# Altium schematic symbol library Discrete_semiconductors.SchLib: 118 symbols (part 1 of 2)
Pins are listed as number, name and electrical type; pins without a type are passive.

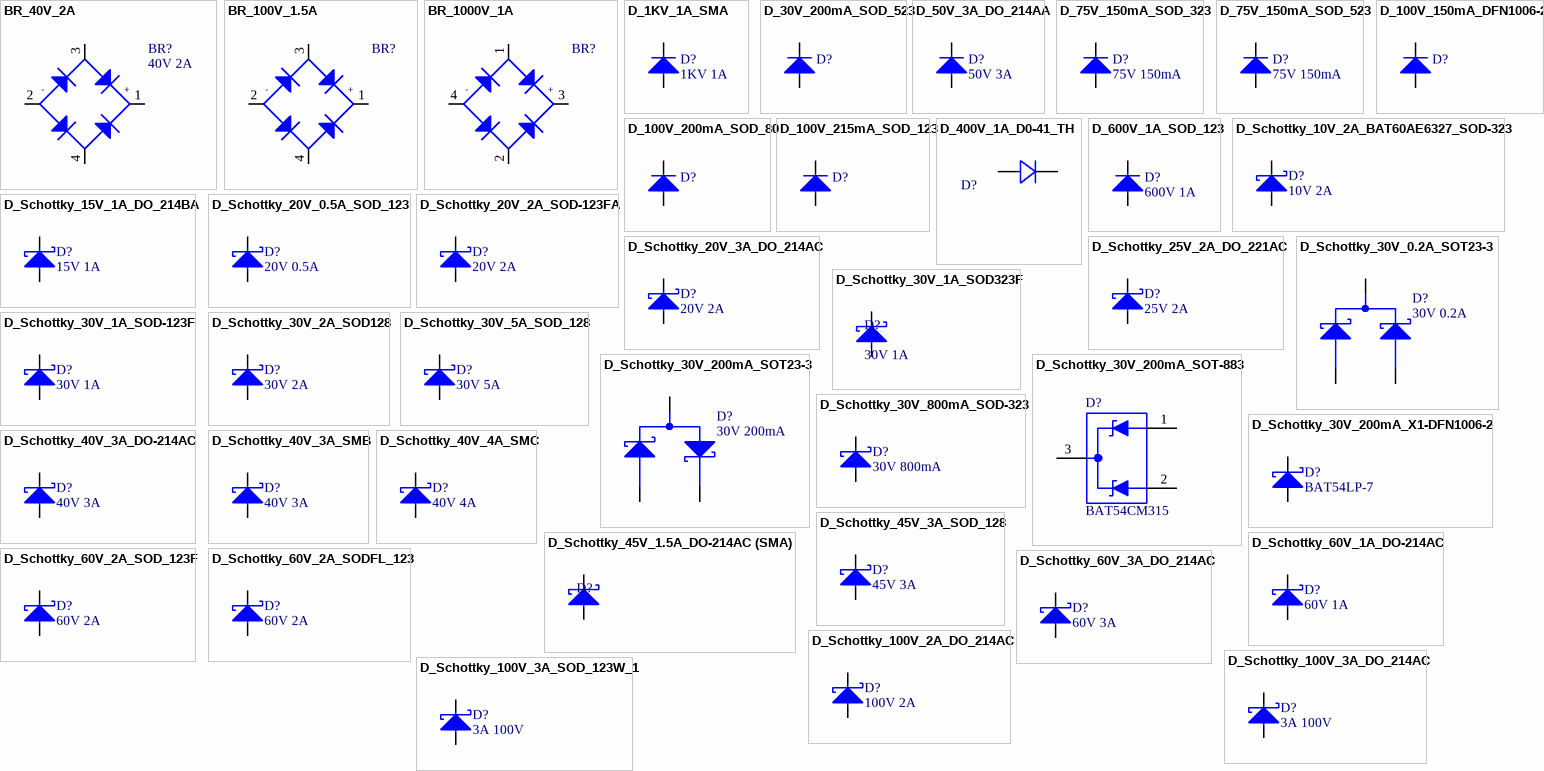
[diagram p0: symbols BR_40V_2A to D_Schottky_100V_3A_SOD_123W_1]

## BR_40V_2A
designator BR?, comment 40V 2A
IC BRIDGE RECT 1PHASE 40V 2A MBS; Manufacturer: SMC Diode Solutions; Manufacturer Part Number: KMB24STR; Supplier 1: Digi-Key; Supplier Part Number 1: 1655-1884-1-ND; Reel Stock: N/A; Last modified by: J.Jaramillo; Last modified date: 20240310; ComponentLink1Description: Digi-Key; ComponentLink1URL: https://www.digikey.com/product-detail/en/smc-diode-solutions/KMB24STR/1655-1884-1-ND/7898353
footprint SMD-4_GULL-WING_MBS (MBS / 20220314 / E.Naranjo)
pins: 1, 2, 3, 4
text: -; +

## BR_100V_1.5A
designator BR?, comment 100V 1.5A  (value not drawn)
IC RECT BRIDGE 100V 1.5A 4-SMD; Manufacturer: ON Semiconductor; Manufacturer Part Number: DF01S; Supplier 1: Digi-Key; Supplier Part Number 1: DF01SCT-ND; Reel Stock: N/A; Last modified by: J.Jaramillo; Last modified date: 20240310; ComponentLink1Description: Digi-Key; ComponentLink1URL: https://www.digikey.com/products/en?keywords=DF01SCT-ND
footprint SMD_4_Gull_Wing (SDIP-4 / 20190225 / C-A.Serna.A)
pins: 1, 2, 3, 4
text: -; +

## BR_1000V_1A
designator BR?, comment 1000V 1A  (value not drawn)
BRIDGE RECT 1P 1KV 1A; Manufacturer: Semtech; Manufacturer Part Number: DB157S; Supplier 1: Poshton; Supplier Part Number 1: DB157S; Reel Stock: N/A; Last modified by: J.Jaramillo; Last modified date: 20240310
footprint DBS (/20200109/V-A.Patino)
pins: 1, 2, 3, 4
text: -; +

## D_1KV_1A_SMA
designator D?, comment 1KV 1A
DIODE GEN PURP 1KV 1A SMA; Manufacturer: Diodes Incorporated; Manufacturer Part Number: S1M-13-F; Supplier 1: Digi-Key; Supplier Part Number 1: S1M-FDICT-ND; Reel Stock: N/A; Last modified by: J.Jaramillo; Last modified date: 20240310; ComponentLink1Description: Digi-Key; ComponentLink1URL: https://www.digikey.com/product-detail/en/diodes-incorporated/S1M-13-F/S1M-FDICT-ND/804909
footprint DO_214AC (SMA / 20190225 / C-A.Serna.A)
pins: 1, 2

## D_30V_200mA_SOD_523
designator D?, comment 30V 200mA  (value not drawn)
RB520S30 - 200 MA LOW VF MEGA SC; Manufacturer: Nexperia USA Inc.; Manufacturer Part Number: RB520S30YL; Supplier 1: Digi-Key; Supplier Part Number 1: 2156-RB520S30YL-NEX-ND; Reel Stock: N/A; Last modified by: J.Jaramillo; Last modified date: 20240310; ComponentLink1Description: Digi-Key; ComponentLink1URL: https://www.digikey.com/en/products/detail/rochester-electronics-llc/RB520S30YL/13525428
footprint SOD-523 (SC-79/20210805/C-A.Serna.A)
pins: 1, 2

## D_50V_3A_DO_214AA
designator D?, comment 50V 3A
DIODE GEN PURP 50V 3A SMB; Manufacturer: Diodes Incorporated; Manufacturer Part Number: S3AB-13-F; Supplier 1: Digi-Key; Supplier Part Number 1: S3AB-FDICT-ND; Reel Stock: N/A; Last modified by: J.Jaramillo; ComponentLink1Description: Digi-Key; ComponentLink1URL: https://www.digikey.com/en/products/detail/diodes-incorporated/S3AB-13-F/814419?s=N4IgTCBcDaIMoGYCCAhAtAMQCIEkDCAKmgHJYgC6AvkA; Last modified date: 20240310
footprint DO_214AA (SMB / C-A.Serna.A / 20190709)
pins: 1, 2

## D_75V_150mA_SOD_323
designator D?, comment 75V 150mA
DIODE GEN PURP 75V 150MA SOD323; Manufacturer: Micro Commercial Co; Manufacturer Part Number: 1N4148WX-TP; Supplier 1: Digi-Key; Supplier Part Number 1: 1N4148WXTPMSCT-ND; Reel Stock: N/A; Last modified by: J.Jaramillo; Last modified date: 20240310; ComponentLink1Description: Digi-Key; ComponentLink1URL: https://www.digikey.com/en/products/detail/micro-commercial-co/1N4148WX-TP/717197?s=N4IgTCBcDaIIwDkAsckA4DqANAtAFQAUQBdAXyA
footprint SOD-323 (SC-76,USC/ 20211220 / N-A.Potosi)
pins: 1, 2

## D_75V_150mA_SOD_523
designator D?, comment 75V 150mA
DIODE GEN PURP 75V 150MA SOD523; Manufacturer: Micro Commercial Co; Manufacturer Part Number: 1N4148X-TP; Supplier 1: Digikey; Supplier Part Number 1: 1N4148XTPMSCT-ND; Reel Stock: N/A; Last modified by: J.Jaramillo; Last modified date: 20240310; ComponentLink1Description: Digikey; ComponentLink1URL: https://www.digikey.com/en/products/detail/micro-commercial-co/1N4148X-TP/789328?s=N4IgTCBcDaIIwDkAsckA4AaAVACgWQGUBhLAWgQBEQBdAXyA
footprint SOD-523 (SC-79/20210805/C-A.Serna.A)
pins: 1, 2

## D_100V_150mA_DFN1006-2
designator D?, comment VF=1.25V  (value not drawn)
DIODE GP 100V 150MA DFN1006-2; Manufacturer: Micro Commercial Co; Manufacturer Part Number: 1N4148WL2-TP; Supplier 1: Digi-Key; Supplier Part Number 1: 1N4148WL2-TPMSCT-ND; Reel Stock: N/A; Last modified by: J.Jaramillo; Last modified date: 20240310; ComponentLink1Description: Digi-Key; ComponentLink1URL: https://www.digikey.com/en/products/detail/micro-commercial-co/1N4148WL2-TP/6193188
footprint DFN1006-2 (0402/ 20211220 / N-A.Potosi)
pins: 1, 2

## D_100V_200mA_SOD_80
designator D?, comment 100V 200mA  (value not drawn)
DIODE GEN PURP 100V 200MA SOD80; Manufacturer: Semtech; Manufacturer Part Number: LL4148; Supplier 1: LCSC; Supplier Part Number 1: C9808; Reel Stock: N/A; Last modified by: J.Jaramillo; Last modified date: 20240310; ComponentLink1Description: LCSC; ComponentLink1URL: https://lcsc.com/product-detail/Switching-Diode_ST-Semtech-LL4148_C9808.html
footprint sod_80 (SOD80 / 20200109 / V-A.Patino)
pins: 1, 2

## D_100V_215mA_SOD_123
designator D?, comment 100V 215mA  (value not drawn)
DIODE GEN PURP 100V 215MA SOD123; Manufacturer: Nexperia USA Inc.; Manufacturer Part Number: BAS16GWJ; Supplier 1: Digi-Key; Supplier Part Number 1: 1727-7320-1-ND; Reel Stock: N/A; Last modified by: J.Jaramillo; Last modified date: 20240310; ComponentLink1Description: Digi-Key; ComponentLink1URL: https://www.digikey.com/en/products/detail/nexperia-usa-inc/BAS16GWJ/7390545?s=N4IgTCBcDaIIwHYwILQIMxgAwrigcgCIgC6AvkA
footprint SOD_123 (/ 20190225 / C-A.Serna.A)
pins: 1, 2

## D_400V_1A_D0-41_TH
designator D?, comment 1N4004  (value not drawn)
DIODE GEN PURP 400V 1A DO41; Manufacturer: Micro Commercial Co; Manufacturer Part Number: 1N4004-TP; Supplier 1: Digi-Key; Supplier Part Number 1: 1N4004-TPMSCT-ND; Reel Stock: N/A; Last modified by: J.Jaramillo; Last modified date: 20240310; ComponentLink1Description: Digi-Key; ComponentLink1URL: https://www.digikey.com/en/products/detail/micro-commercial-co/1N4004-TP/773691; ComponentLink2Description: Datasheet; ComponentLink2URL: chrome-extension://efaidnbmnnnibpcajpcglclefindmkaj/https://www.mccsemi.com/pdf/Products/1N4001~1N4007(DO-41).pdf
footprint D041-AXIAL_DIODE_1N4004 (/ 20231112 / J.Jaramillo)
pins: 1, 2

## D_600V_1A_SOD_123
designator D?, comment 600V 1A
DIODE GEN PURP 600V 1A MINISMA; Manufacturer: Comchip Technology; Manufacturer Part Number: CGRM4005-G; Supplier 1: Digikey; Supplier Part Number 1: 641-1460-1-ND; Reel Stock: N/A; Last modified by: J.Jaramillo; Last modified date: 20240310; ComponentLink1Description: Digikey; ComponentLink1URL: https://www.digikey.com/en/products/detail/comchip-technology/CGRM4005-G/2355978?s=N4IgTCBcDaIMIHEBKBZALABgwVgLQJAF0BfIA
footprint SOD_123 (/ 20191030 / V-A.Patino)
pins: 1, 2

## D_Schottky_10V_2A_BAT60AE6327_SOD-323
designator D?, comment 10V 2A
Diode 1 Independent 10V 3A Surface Mount SOD-323; Manufacturer: Infineon; Manufacturer Part Number: BAT60AE6327; Reel Stock: N/A; Last modified by: J.Jaramillo; Last modified date: 250326; Supplier 1: LCSC; Supplier Part Number 1: C513277; ComponentLink1Description: LCSC; ComponentLink1URL: https://www.lcsc.com/product-detail/C513277.html?s_z=n_BAT60A&spm=wm.ssy.bg.0.xh&lcsc_vid=QFgKXlMHQFdeXgVREVdcUFdXFQMMXlADQgBeUQdfR1ExVlNRQ1VbX1BSQFVbUjsOAxUeFF5JWBYZEEoKFBINSQcJGk4%3D; ComponentLink2Description: Datasheet; ComponentLink2URL: https://www.lcsc.com/datasheet/C513277.pdf?spm=wm.sxq.inf.ggs___wm.ssy.bg.0.xh&lcsc_vid=QFgKXlMHQFdeXgVREVdcUFdXFQMMXlADQgBeUQdfR1ExVlNRQ1VbX1BSQFVbUjsOAxUeFF5JWBYZEEoKFBINSQcJGk4%3D
footprint SOD-323 (SC-76,USC/ 20211220 / N-A.Potosi)
pins: 1, 2

## D_Schottky_15V_1A_DO_214BA
designator D?, comment 15V 1A
DIODE SCHOTTKY 15V 1A DO214BA; Manufacturer: Microchip Technology; Manufacturer Part Number: LSM115JE3/TR13; Reel Stock: N/A; Last modified by: J.Jaramillo; Last modified date: 20240310; Supplier 1: Digi-Key; Supplier Part Number 1: 150-LSM115JE3/TR13CT-ND; ComponentLink1Description: Digi-Key; ComponentLink1URL: https://www.digikey.com/en/products/detail/microchip-technology/LSM115JE3-TR13/1634473?s=N4IgjCBcoJwGxVAYygMwIYBsDOBTANCAPZQDaIALAAxUDMA7ABwgC6hADgC5QgDKnAJwCWAOwDmIAL6EATDLgRoIFJAw4CxMiDlUABAFsAaroACusLoCCrDt0ggAwkQCu7TLgAmAVRFDOAeVQAWVx0bGcBXClCAFoZRGUoQWcNEkhyAFZWSRygA
footprint DO_214BA (/ 20220728 / F-A.Ospina)
pins: 1, 2

## D_Schottky_20V_0.5A_SOD_123
designator D?, comment 20V 0.5A
DIODE SCHOTTKY 20V 500MA SOD123; Manufacturer: ON Semiconductor; Manufacturer Part Number: MBR0520LT1G; Reel Stock: N/A; Last modified by: J.Jaramillo; Last modified date: 20240310; Supplier 1: Digi-Key; Supplier Part Number 1: MBR0520LT1GOSCT-ND; ComponentLink1Description: Digi-Key; ComponentLink1URL: https://www.digikey.com/product-detail/en/on-semiconductor/MBR0520LT1G/MBR0520LT1GOSCT-ND/917965
footprint SOD_123 (/ 20191030 / V-A.Patino)
pins: 1, 2

## D_Schottky_20V_2A_SOD-123FA
designator D?, comment 20V 2A
DIODE SCHOTTKY 20V 2A SOD123FA; Manufacturer: ON Semiconductor; Manufacturer Part Number: SS22FA; Supplier 1: Digi-Key; Supplier Part Number 1: SS22FACT-ND; Reel Stock: N/A; Last modified by: J.Jaramillo; Last modified date: 20240310; ComponentLink1Description: Digi-Key; ComponentLink1URL: https://www.digikey.com/en/products/detail/on-semiconductor/SS22FA/5892112
footprint SOD_123W (SOD123W / 20190225 / C-A.Serna.A)
pins: 1, 2

## D_Schottky_20V_3A_DO_214AC
designator D?, comment 20V 2A
DIODE SCHOTTKY 20V 3A SMA; Manufacturer: Diodes Incorporated; Manufacturer Part Number: B320AE-13; Reel Stock: N/A; Last modified by: J.Jaramillo; Last modified date: 20240310; Supplier 1: Digi-Key; Supplier Part Number 1: B320AE-13DICT-ND; ComponentLink1Description: Digi-Key; ComponentLink1URL: https://www.digikey.com/product-detail/en/diodes-incorporated/B320AE-13/B320AE-13DICT-ND/8545849
footprint DO_214AC (SMA / 20190225 / C-A.Serna.A)
pins: 1, 2

## D_Schottky_25V_2A_DO_221AC
designator D?, comment 25V 2A
DIODE SCHOTTKY 25V 2A SMAFLAT; Manufacturer: STMicroelectronics; Manufacturer Part Number: STPS2L25AFN; Reel Stock: N/A; Last modified by: J.Jaramillo; Last modified date: 20240310; Supplier 1: Digi-Key; Supplier Part Number 1: 497-STPS2L25AFNCT-ND; ComponentLink1Description: Digi-Key; ComponentLink1URL: https://www.digikey.com/en/products/detail/stmicroelectronics/STPS2L25AFN/11204002?s=N4IgTCBcDaIMoBUAKcwBkwFYCCAxAciALoC%2BQA
footprint DO_221AC (/20230220/ N-A.Potosi)
pins: 1, 2

## D_Schottky_30V_0.2A_SOT23-3
designator D?, comment 30V 0.2A
DIODE ARRAY SCHOTTKY 30V SOT23-3; Manufacturer: ON Semiconductor; Manufacturer Part Number: BAT54CLT1G; Reel Stock: N/A; Last modified by: J.Jaramillo; Last modified date: 20240310; Supplier 1: Digi-Key; Supplier Part Number 1: BAT54CLT1GOSCT-ND; ComponentLink1Description: Digi-Key; ComponentLink1URL: https://www.digikey.com/product-detail/en/on-semiconductor/BAT54CLT1G/BAT54CLT1GOSCT-ND/920481
footprint SOT_23_3 (TO-236-3, SC-59/ 20190613 / J-P.Vargas.A)
pins: 1, 2, 3

## D_Schottky_30V_1A_SOD323F
designator D?, comment 30V 1A
DIODE SCHOTTKY 30V 1A SOD323F; Manufacturer: Nexperia USA Inc.; Manufacturer Part Number: PMEG3010EJ,115; Supplier 1: Digi-Key; Supplier Part Number 1: 1727-3870-1-ND; Reel Stock: N/A; Last modified by: J.Jaramillo; Last modified date: 20240310; ComponentLink1Description: Digi-Key; ComponentLink1URL: https://www.digikey.com/en/products/detail/nexperia-usa-inc/PMEG3010EJ-115/1157695?s=N4IgTCBcDaIAoFkCiBxAzABgIwaQKQBossBWEAXQF8g
footprint SOD_323F (SC-90 / C-A.Serna.A / 20190709)
pins: 1, 2

## D_Schottky_30V_1A_SOD-123F
designator D?, comment 30V 1A
DIODE SCHOTTKY 30V 1A PMDU; Manufacturer: Rohm Semiconductor; Manufacturer Part Number: RB160MM-30TR; Supplier 1: Digi-Key; Supplier Part Number 1: RB160MM-30CT-ND; Reel Stock: N/A; Last modified by: J.Jaramillo; Last modified date: 20240310; ComponentLink1Description: Digikey; ComponentLink1URL: https://www.digikey.com/en/products/detail/rohm-semiconductor/RB160MM-30TR/5001877
footprint SOD_123 (/ 20191030 / V-A.Patino)
pins: 1, 2

## D_Schottky_30V_2A_SOD128
designator D?, comment 30V 2A
DIODE SCHOTTKY 30V 2A SOD128; Manufacturer: Nexperia USA Inc.; Manufacturer Part Number: PMEG3020EP,115; Reel Stock: N/A; Last modified by: J.Jaramillo; Last modified date: 20240310; Supplier 1: Digi-Key; Supplier Part Number 1: 1727-5836-1-ND; ComponentLink1Description: Digi-Key; ComponentLink1URL: https://www.digikey.com/product-detail/en/nexperia-usa-inc/PMEG3020EP115/1727-5836-1-ND/2697503
footprint SOD_128 (20190515/ V-A.Patino)
pins: 1, 2

## D_Schottky_30V_5A_SOD_128
designator D?, comment 30V 5A
DIODE SCHOTTKY 30V 5A MFLAT; Manufacturer: Toshiba Semiconductor and Storage; Manufacturer Part Number: CMS04(TE12L,Q,M); Reel Stock: N/A; Last modified by: J.Jaramillo; Last modified date: 20240310; Supplier 1: Digi-Key; Supplier Part Number 1: CMS04(TE12LQM)CT-ND; ComponentLink1Description: Digi-key; ComponentLink1URL: https://www.digikey.com/product-detail/en/toshiba-semiconductor-and-storage/CMS04-TE12LQM/CMS04-TE12LQM-CT-ND/871535
footprint SOD_128 (20190327/ V-A.Patino)
pins: 1, 2

## D_Schottky_30V_200mA_SOT23-3
designator D?, comment 30V 200mA
DIODE ARRAY SCHOTTKY 30V SOT23-3; Manufacturer: onsemi; Manufacturer Part Number: SBAT54SLT1G; Supplier 1: Digi-Key; Supplier Part Number 1: SBAT54SLT1GOSCT-ND; Reel Stock: N/A; Last modified by: J.Jaramillo; Last modified date: 20240310; ComponentLink1Description: Digi-Key; ComponentLink1URL: https://www.digikey.com/en/products/detail/onsemi/SBAT54SLT1G/3062594
footprint SOT_23_3 (TO-236-3, SC-59/ 20190613 / J-P.Vargas.A)
pins: 1, 2, 3

## D_Schottky_30V_200mA_SOT-883
designator D?, comment BAT54CM315
NOW NEXPERIA BAT54C - RECTIFIER; Manufacturer: NXP USA Inc.; Manufacturer Part Number: BAT54CM315; Supplier 1: Digi-Key; Supplier Part Number 1: 2156-BAT54CM315-ND; Reel Stock: N/A; Last modified by: J.Jaramillo; Last modified date: 20240310; ComponentLink1Description: Digi-Key; ComponentLink1URL: https://www.digikey.com/en/products/detail/nxp-usa-inc/BAT54CM315/13508926?s=N4IgTCBcDaIEIEEAqBWALAYQLIGYCMKIAugL5A
footprint SOT-883 (20220103 / A-F.Romo)
pins: 1 A1, 2 A2, 3 CM_CATHODE

## D_Schottky_30V_200mA_X1-DFN1006-2
designator D?, comment BAT54LP-7
DIODE SCHOTTKY 30V 200MA 2DFN; Manufacturer: Diodes Incorporated; Manufacturer Part Number: BAT54LP-7; Supplier 1: Digi-Key; Supplier Part Number 1: BAT54LPDICT-ND; Reel Stock: N/A; Last modified by: J.Jaramillo; Last modified date: 20240310; ComponentLink1Description: Digi-Key; ComponentLink1URL: https://www.digikey.com/en/products/detail/diodes-incorporated/BAT54LP-7/765611?s=N4IgTCBcDaIEIEEAqBWALAGQAoBECSAwkgLQByOIAugL5A
footprint X1-DFN1006-2_1X0.6MM (20220103 / A-F.Romo)
pins: 1, 2

## D_Schottky_30V_800mA_SOD-323
designator D?, comment 30V 800mA
DIODE SCHOTTKY 30V 800MA USC; Manufacturer: Toshiba Semiconductor and Storage; Manufacturer Part Number: CUS08F30,H3F; Supplier 1: Digikey; Supplier Part Number 1: CUS08F30H3FCT-ND; Reel Stock: N/A; Last modified by: J.Jaramillo; Last modified date: 20240310; ComponentLink1Description: Digikey; ComponentLink1URL: https://www.digikey.com/en/products/detail/toshiba-semiconductor-and-storage/CUS08F30-H3F/5114298?s=N4IgTCBcDaICIEkDycCiACAygYQBJIBUCBpATXQGYAGANXQA4qqBZAQXQFUcQBdAXyA
footprint SOD-323 (0402/ 20211220 / N-A.Potosi)
pins: 1, 2

## D_Schottky_40V_3A_DO-214AC
designator D?, comment 40V 3A
DIODE SCHOTTKY 40V 3A SMA; Manufacturer: Diodes Incorporated; Manufacturer Part Number: B340A-13-F; Reel Stock: N/A; Last modified by: J.Jaramillo; Last modified date: 20240513; Supplier 1: Digi-Key; Supplier Part Number 1: B340A-FDICT-ND; ComponentLink1Description: Digi-Key; ComponentLink1URL: https://www.digikey.com/en/products/detail/diodes-incorporated/B340A-13-F/725015; ComponentLink2Description: Datasheet; ComponentLink2URL: https://www.digikey.com/en/products/detail/diodes-incorporated/B340A-13-F/725015
footprint DO-214AC (/ 20240513 / J.Jaramillo)
pins: 1, 2

## D_Schottky_40V_3A_SMB
designator D?, comment 40V 3A
DIODE SCHOTTKY 40V 3A SMB; Manufacturer: Semtech; Manufacturer Part Number: SS34; Reel Stock: N/A; Last modified by: J.Jaramillo; Last modified date: 20240310; Supplier 1: LCSC; Supplier Part Number 1: C98442; ComponentLink1Description: LCSC; ComponentLink1URL: https://lcsc.com/product-detail/Schottky-Barrier-Diodes-SBD_ST-Semtech-SS34_C98442.html
footprint SMB (/20200109/V-A.Patino)
pins: 1, 2

## D_Schottky_40V_4A_SMC
designator D?, comment 40V 4A
DIODE SCHOTTKY 40V 4A SMC; Manufacturer: ON Semiconductor; Manufacturer Part Number: MBRS340T3G; Reel Stock: N/A; Last modified by: J.Jaramillo; Last modified date: 20240310; ComponentLink1Description: Digi-key; ComponentLink1URL: https://www.digikey.com/products/en?keywords=MBRS340T3GOSCT-ND; Supplier 1: Digi-Key; Supplier Part Number 1: MBRS340T3GOSCT-ND
footprint SMC (DO-214AB / 20190515/V-A.Patino)
pins: 1, 2

## D_Schottky_45V_1.5A_DO-214AC (SMA)
designator D?, comment 45v 1.5A  (value not drawn)
DIODE SCHOTTKY 45V 1.5A DO214AC; Manufacturer: Vishay General Semiconductor - Diodes Division; Manufacturer Part Number: BYS10-45-E3/TR; Supplier 1: Digi-Key; Supplier Part Number 1: BYS10-45-E3/GICT-ND; Reel Stock: N/A; Last modified by: J.Jaramillo; Last modified date: 20240310; ComponentLink1Description: Digi-Key; ComponentLink1URL: https://www.digikey.com/en/products/detail/vishay-general-semiconductor-diodes-division/BYS10-45-E3-TR/2149785
footprint DO214AC (/ 20221206/ J.Jaramillo)
pins: 1, 2

## D_Schottky_45V_3A_SOD_128
designator D?, comment 45V 3A
DIODE SCHOTTKY 45V 3A SOD128; Manufacturer: Taiwan Semiconductor Corporation; Manufacturer Part Number: TSS83L45MWG; Reel Stock: N/A; Last modified by: J.Jaramillo; Last modified date: 20240310; ComponentLink1Description: Digi-key; ComponentLink1URL: https://www.digikey.com/products/en?keywords=TSS83L45MWGCT-ND; Supplier 1: Digi-Key; Supplier Part Number 1: TSS83L45MWGCT-ND
footprint SOD_128 (20190515/ V-A.Patino)
pins: 1, 2

## D_Schottky_60V_1A_DO-214AC
designator D?, comment 60V 1A
DIODE SCHOTTKY 60V 1A SMA; Manufacturer: Panjit International Inc.; Manufacturer Part Number: SS16L_R1_00001; Supplier 1: Digi-Key; Supplier Part Number 1: 3757-SS16L_R1_00001CT-ND; Reel Stock: N/A; Last modified by: J.Jaramillo; Last modified date: 20240310; ComponentLink1Description: Digi-Key; ComponentLink1URL: https://www.digikey.com/en/products/detail/panjit-international-inc/SS16L-R1-00001/14660049
footprint DO_214AC (SMA / 20190225 / C-A.Serna.A)
pins: 1, 2

## D_Schottky_60V_2A_SOD_123F
designator D?, comment 60V 2A
DIODE SCHOTTKY 60V 2A PMDU; Manufacturer: Rohm Semiconductor; Manufacturer Part Number: RB060M-60TR; Supplier 1: Digi-key; Supplier Part Number 1: 846-RB060M-60CT-ND; Reel Stock: N/A; Last modified by: J.Jaramillo; Last modified date: 20240310; ComponentLink1Description: Digi-key; ComponentLink1URL: https://www.digikey.com/en/products/detail/rohm-semiconductor/RB060M-60TR/2615614?s=N4IgTCBcDaIEoCEAMA2JBZAtGgKnEAugL5A
footprint SOD_123F (SOD_123F/20220518/F-A.Ospina)
pins: 1, 2

## D_Schottky_60V_2A_SODFL_123
designator D?, comment 60V 2A
DIODE SCHOTTKY 60V 2A SOD123FL; Manufacturer: ON Semiconductor; Manufacturer Part Number: NRVTS260ESFT1G; Reel Stock: N/A; Last modified by: J.Jaramillo; Last modified date: 20240310; Supplier 1: Digi-Key; Supplier Part Number 1: NRVTS260ESFT1GOSCT-ND; ComponentLink1Description: Digi-Key; ComponentLink1URL: https://www.digikey.com/product-detail/en/on-semiconductor/NRVTS260ESFT1G/NRVTS260ESFT1GOSCT-ND/5131388
footprint SODFL_123 (SOD-123F, SOD-123FL / 20200623/ C-E.Rincon)
pins: 1, 2

## D_Schottky_60V_3A_DO_214AC
designator D?, comment 60V 3A
DIODE SCHOTTKY 60V 3A DO214AC; Manufacturer: Taiwan Semiconductor Corporation; Manufacturer Part Number: TSSA3U60 R3G; Reel Stock: N/A; Last modified by: J.Jaramillo; Last modified date: 20240310; Supplier 1: Digi-Key; Supplier Part Number 1: TSSA3U60R3GCT-ND; ComponentLink1Description: Digi-Key; ComponentLink1URL: https://www.digikey.com/products/en?keywords=TSSA3U60R3GCT-ND
footprint DO_214AC (SMA / 20190225 / C-A.Serna.A)
pins: 1, 2

## D_Schottky_100V_2A_DO_214AC
designator D?, comment 100V 2A
DIODE SCHOTTKY 100V 2A SMA; Manufacturer: SMC Diode Solutions; Manufacturer Part Number: SS210ATR; Reel Stock: N/A; Last modified by: J.Jaramillo; Last modified date: 20240310; Supplier 1: Digi-Key; Supplier Part Number 1: 1655-1896-1-ND; ComponentLink1Description: Digi-Key; ComponentLink1URL: https://www.digikey.com/products/en?keywords=1655-1896-1-ND
footprint DO_214AC (SMA / 20190225 / C-A.Serna.A)
pins: 1, 2

## D_Schottky_100V_3A_DO_214AC
designator D?, comment 3A 100V
DIODE SCHOTTKY 100V 3A DO214AC; Manufacturer: Micro Commercial Co; Manufacturer Part Number: SK310A-LTP; Reel Stock: N/A; Last modified by: J.Jaramillo; Last modified date: 20240310; Supplier 1: Digi-Key; Supplier Part Number 1: SK310A-LTPMSCT-ND
footprint DO_214AC (SMA / 20190225 / C-A.Serna.A)
pins: 1, 2

## D_Schottky_100V_3A_SOD_123W_1
designator D?, comment 3A 100V
DIODE SCHOTTKY 100V 3A SOD123W; Manufacturer: Taiwan Semiconductor Corporation; Manufacturer Part Number: SS310LW RVG; Reel Stock: N/A; Last modified by: J.Jaramillo; Last modified date: 20240310; Supplier 1: Digi-Key; Supplier Part Number 1: SS310LWRVGCT-ND; ComponentLink1Description: Digi-Key; ComponentLink1URL: https://www.digikey.com/product-detail/en/taiwan-semiconductor-corporation/SS310LW-RVG/SS310LWRVGCT-ND/7359586
footprint SOD_123W (SOD123W / 20190225 / C-A.Serna.A)
pins: 1, 2

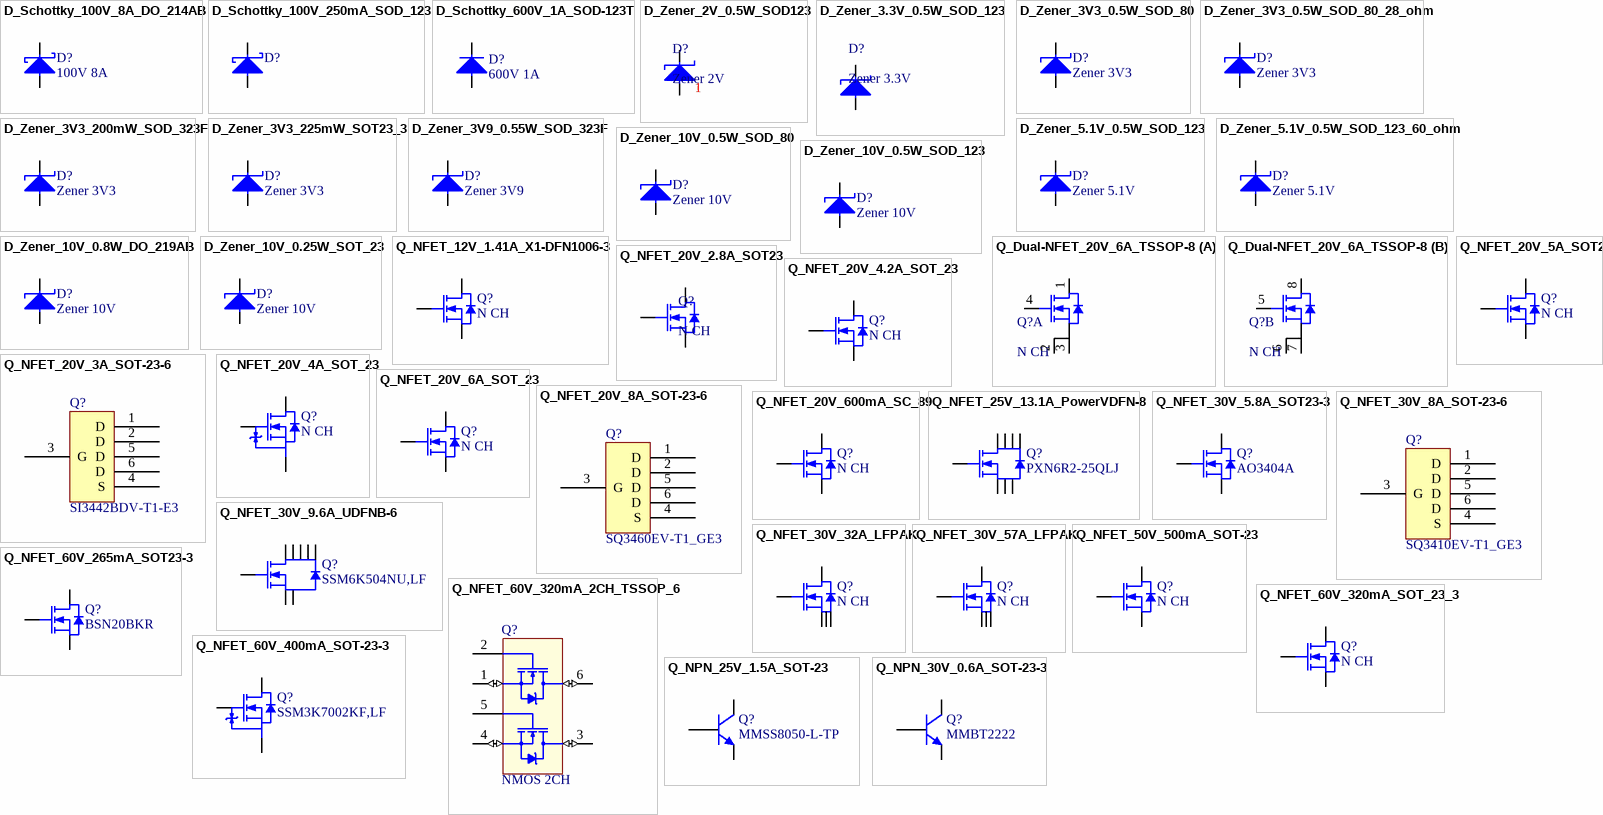
[diagram p1: symbols D_Schottky_100V_8A_DO_214AB to Q_NPN_30V_0.6A_SOT-23-3]

## D_Schottky_100V_8A_DO_214AB
designator D?, comment 100V 8A
DIODE SCHOTTKY 100V 8A DO214AB; Manufacturer: Micro Commercial Co; Manufacturer Part Number: SK810L-TP; Supplier 1: Digi-key; Supplier Part Number 1: SK810L-TPMSCT-ND; Reel Stock: N/A; Last modified by: J.Jaramillo; Last modified date: 20240310; ComponentLink1Description: Digi-key; ComponentLink1URL: https://www.digikey.com/en/products/detail/micro-commercial-co/SK810L-TP/2650905?s=N4IgTCBcDaIMoGkAcBGADAGQLQBUAKIAugL5A
footprint DO_214AB (DO_214AB/20220518/F-A.Ospina)
pins: 1, 2

## D_Schottky_100V_250mA_SOD_123
designator D?, comment 100V 215mA  (value not drawn)
DIODE SCHOTTKY 100V 250MA SOD123; Manufacturer: Nexperia USA Inc.; Manufacturer Part Number: BAT46GWX; Supplier 1: Digi-Key; Supplier Part Number 1: 1727-7325-1-ND; Reel Stock: N/A; Last modified by: J.Jaramillo; Last modified date: 20240310; ComponentLink1Description: Digi-Key; ComponentLink1URL: https://www.digikey.com/product-detail/en/nexperia-usa-inc/BAT46GWX/1727-7325-1-ND/7390576
footprint SOD_123 (/ 20191030 / V-A.Patino)
pins: 1, 2

## D_Schottky_600V_1A_SOD-123T
designator D?, comment 600V 1A
DIODE GEN PURP 600V 1A MINISMA; Manufacturer: Comchip Technology; Manufacturer Part Number: CGRM4005-G; Supplier 1: Digi-key; Supplier Part Number 1: 641-1460-1-ND; Reel Stock: N/A; Last modified by: J.Jaramillo; Last modified date: 20240310; ComponentLink1Description: Digi-key; ComponentLink1URL: https://www.digikey.com/en/products/detail/comchip-technology/CGRM4005-G/2355978?s=N4IgTCBcDaIMIHEBKBZALABgwVgLQJAF0BfIA
footprint SOD_123T (SOD_123T/20220518/F-A.Ospina)
pins: 1, 2

## D_Zener_2V_0.5W_SOD123
designator D?, comment Zener 2V  Usage: 1
DIODE ZENER 2V 500MW SOD123; Manufacturer: onsemi; Manufacturer Part Number: MMSZ4679T1G; Supplier 1: Digi-Key; Supplier Part Number 1: MMSZ4679T1GOSCT-ND; Reel Stock: N/A; Last modified by: J.Jaramillo; Last modified date: 20240310; ComponentLink1Description: New link; ComponentLink1URL: https://www.digikey.com/en/products/detail/onsemi/MMSZ4679T1G/919715
footprint SOD_123 (/ 20191030 / V-A.Patino)
pins: 1, 2

## D_Zener_3.3V_0.5W_SOD_123
designator D?, comment Zener 3.3V
DIODE ZENER 3.3V 500MW SOD123; Manufacturer: Micro Commercial Co; Manufacturer Part Number: MMSZ4684-TP; Supplier 1: Digi-Key; Supplier Part Number 1: MMSZ4684-TPMSCT-ND; Reel Stock: N/A; Last modified by: J.Jaramillo; Last modified date: 20240310; ComponentLink1Description: Digi-Key; ComponentLink1URL: https://www.digikey.com/en/products/detail/micro-commercial-co/MMSZ4684-TP/2345538
footprint SOD_123 (/ 20191030 / V-A.Patino)
pins: 1, 2

## D_Zener_3V3_0.5W_SOD_80
designator D?, comment Zener 3V3
DIODE ZENER 3V3 500MW SOD80; Manufacturer: Semtech; Manufacturer Part Number: ZMM3V3; Reel Stock: N/A; Last modified by: J.Jaramillo; Last modified date: 20240310; Supplier 1: LCSC; Supplier Part Number 1: C8056; ComponentLink1Description: LCSC; ComponentLink1URL: https://lcsc.com/product-detail/Zener-Diodes_ST-Semtech-ZMM3V3_C8056.html
footprint SOD_80 (SOD80 / 20200109 / V-A.Patino)
pins: 1, 2

## D_Zener_3V3_0.5W_SOD_80_28_ohm
designator D?, comment Zener 3V3
DIODE ZENER 3V3 500MW SOD80; Manufacturer: Vishay General Semiconductor - Diodes Division; Manufacturer Part Number: TZM5226B-GS08; Reel Stock: N/A; Last modified by: J.Jaramillo; Last modified date: 20240310; Supplier 1: Digi-Key; Supplier Part Number 1: TZM5226B-GS08CT-ND; ComponentLink1Description: Digi-Key; ComponentLink1URL: https://www.digikey.com/en/products/detail/vishay-general-semiconductor-diodes-division/TZM5226B-GS08/3104258
footprint SOD_80 (SOD80 / 20200109 / V-A.Patino)
pins: 1, 2

## D_Zener_3V3_200mW_SOD_323F
designator D?, comment Zener 3V3
DIODE ZENER 3.3V 200MW SOD323F; Manufacturer: ON Semiconductor; Manufacturer Part Number: MM3Z3V3B; Reel Stock: N/A; Last modified by: J.Jaramillo; Last modified date: 20240310; Supplier 1: Digi-Key; Supplier Part Number 1: MM3Z3V3BCT-ND; ComponentLink1Description: Datasheet; ComponentLink1URL: https://www.digikey.com/en/products/detail/onsemi/MM3Z3V3B/1626765?s=N4IgTCBcDaILJwMwC1EDVECEDCAVAtAHIAiIAugL5A
footprint SOD_323F (SC-90 / C-A.Serna.A / 20190709)
pins: 1, 2

## D_Zener_3V3_225mW_SOT23_3
designator D?, comment Zener 3V3
DIODE ZENER 3.3V 225MW SOT23-3; Manufacturer: onsemi; Manufacturer Part Number: MMBZ5226BLT1G; Reel Stock: N/A; Last modified by: J.Jaramillo; Last modified date: 20240310; Supplier 1: Digi-Key; Supplier Part Number 1: MMBZ5226BLT1GOSCT-ND; ComponentLink1Description: Datasheet; ComponentLink1URL: https://www.digikey.com/en/products/detail/onsemi/MMBZ5226BLT1G/919654?s=N4IgTCBcDaILJwEIC0CsYwDZEBkAqAjAOIDyAygMJ4C0AcgCIgC6AvkA
footprint SOT_23_3 (TO-236-3, SC-59/ 20190613 / J-P.Vargas.A)
pins: 1, 3

## D_Zener_3V9_0.55W_SOD_323F
designator D?, comment Zener 3V9
DIODE ZENER 3.9V 550MW SOD323F; Manufacturer: Nexperia USA Inc.; Manufacturer Part Number: BZX84J-C3V9,115; Reel Stock: N/A; Last modified by: J.Jaramillo; Last modified date: 20240310; Supplier 1: Digi-Key; Supplier Part Number 1: 1727-6261-1-ND; ComponentLink1Description: Digi-Key; ComponentLink1URL: https://www.digikey.com/en/products/detail/nexperia-usa-inc/BZX84J-C3V9-115/1692749
footprint SOD_323F (SC-90 / C-A.Serna.A / 20190709)
pins: 1, 2

## D_Zener_5.1V_0.5W_SOD_123
designator D?, comment Zener 5.1V
DIODE ZENER 5.1V 500MW SOD123; Manufacturer: Micro Commercial Co; Manufacturer Part Number: MMSZ5231B-TP; Reel Stock: N/A; Last modified by: J.Jaramillo; Last modified date: 20240310; Supplier 1: Digi-Key; Supplier Part Number 1: MMSZ5231B-TPMSCT-ND; ComponentLink1Description: Datasheet; ComponentLink1URL: https://www.digikey.com/products/en?keywords=MMSZ5231B-TPMSCT-ND
footprint SOD_123 (/ 20190225 / C-A.Serna.A)
pins: 1, 2

## D_Zener_5.1V_0.5W_SOD_123_60_ohm
designator D?, comment Zener 5.1V
DIODE ZENER 5.1V 500MW SOD123; Manufacturer: Micro Commercial Co; Manufacturer Part Number: BZT52C5V1-TP; Reel Stock: N/A; Last modified by: J.Jaramillo; Last modified date: 20240310; Supplier 1: Digi-Key; Supplier Part Number 1: BZT52C5V1-TPMSCT-ND; ComponentLink1Description: Datasheet; ComponentLink1URL: https://www.digikey.com/en/products/detail/micro-commercial-co/BZT52C5V1-TP/806045
footprint SOD_123 (/ 20190225 / C-A.Serna.A)
pins: 1, 2

## D_Zener_10V_0.5W_SOD_80
designator D?, comment Zener 10V
DIODE ZENER 10V 500MW SOD80; Manufacturer: Semtech; Manufacturer Part Number: ZMM 10; Reel Stock: N/A; Last modified by: J.Jaramillo; Last modified date: 20240310; Supplier 1: LCDS; Supplier Part Number 1: C8068; ComponentLink1Description: LCSC; ComponentLink1URL: https://lcsc.com/product-detail/Zener-Diodes_ST-Semtech-ZMM10_C8068.html
footprint SOD_80 (SOD80 / 20200109 / V-A.Patino)
pins: 1, 2

## D_Zener_10V_0.5W_SOD_123
designator D?, comment Zener 10V
DIODE ZENER 10V 500MW SOD123; Manufacturer: Diodes Incorporated; Manufacturer Part Number: DDZ9697-7; Reel Stock: N/A; Last modified by: J.Jaramillo; Last modified date: 20240310; Supplier 1: Digi-Key; Supplier Part Number 1: DDZ9697DICT-ND; ComponentLink1Description: Datasheet; ComponentLink1URL: https://www.digikey.tw/product-detail/en/diodes-incorporated/DDZ9697-7/DDZ9697DICT-ND/700181
footprint SOD_123 (/ 20190225 / C-A.Serna.A)
pins: 1, 2

## D_Zener_10V_0.8W_DO_219AB
designator D?, comment Zener 10V
DIODE ZENER 800MW SMF DO219; Manufacturer: Vishay Semiconductor Diodes Division; Manufacturer Part Number: BZD27C10P-E3-08; Reel Stock: N/A; Last modified by: J.Jaramillo; Last modified date: 20240310; Supplier 1: Digi-Key; Supplier Part Number 1: BZD27C10P-E3-08GICT-ND; ComponentLink1Description: Datasheet; ComponentLink1URL: http://www.vishay.com/docs/85153/bzd27series.pdf
footprint DO-219AB
pins: 1, 2

## D_Zener_10V_0.25W_SOT_23
designator D?, comment Zener 10V
DIODE ZENER 10V 250MW SOT23; Manufacturer: Nexperia USA Inc.; Manufacturer Part Number: BZX84-A10,215; Reel Stock: N/A; Last modified by: J.Jaramillo; Last modified date: 20240310; Supplier 1: Digi-Key; Supplier Part Number 1: 1727-5363-1-ND; ComponentLink1Description: Datasheet; ComponentLink1URL: https://www.digikey.com/en/products/detail/nexperia-usa-inc/BZX84-A10215/2119643?s=N4IgTCBcDaIEIC0AaAOALAWgIIEYAMANGDgKwgC6AvkA
footprint SOT_23_3 (TO-236-3, SC-59/ 20190613 / J-P.Vargas.A)
pins: 1, 3

## Q_Dual-NFET_20V_6A_TSSOP-8
designator Q?, comment N CH
N-Channel Array 20V 6A 1.5W Surface Mount TSSOP-8; Manufacturer: HXY MOSFET; Manufacturer Part Number: 8205A; Supplier 1: LCSC; Supplier Part Number 1: C5148694; Reel Stock: N/A; Last modified by: J.Jaramillo; Last modified date: 200326; ComponentLink1Description: LCSC; ComponentLink1URL: https://www.lcsc.com/product-detail/C5148694.html?s_z=n_hxy%2520mosfet%25208205A&spm=wm.ssy.bg.0.xh&lcsc_vid=QFgKXlMHQFdeXgVREVdcUFdXFQMMXlADQgBeUQdfR1ExVlNRQ1FdV1ZSQlFYUzsOAxUeFF5JWBYZEEoKFBINSQcJGk4eFQsCAgIaSgADAwAHC0slRVldV1dUR08GEwkK; ComponentLink2Description: Datasheet; ComponentLink2URL: https://www.lcsc.com/datasheet/C5148694.pdf?spm=wm.sxq.inf.ggs___wm.ssy.bg.0.xh&lcsc_vid=QFgKXlMHQFdeXgVREVdcUFdXFQMMXlADQgBeUQdfR1ExVlNRQ1FdV1ZSQlFYUzsOAxUeFF5JWBYZEEoKFBINSQcJGk4eFQsCAgIaSgADAwAHC0slRVldV1dUR08GEwkK
footprint TSSOP-8 (/ 200326 / J.Jaramillo)
part A pins: 1 D1, 2 S1, 3 S1, 4 G1
part B pins: 5 G2, 6 S2, 7 S2, 8 D2

## Q_NFET_12V_1.41A_X1-DFN1006-3
designator Q?, comment N CH
MOSFET N-CH 12V 1.41A 3DFN; Manufacturer: Diodes Incorporated; Manufacturer Part Number: DMN1150UFB-7B; Supplier 1: Digi-Key; Supplier Part Number 1: DMN1150UFB-7BDICT-ND; Last modified by: J.Jaramillo; Last modified date: 20240310; ComponentLink1Description: Digi-Key; ComponentLink1URL: https://www.digikey.com/en/products/detail/diodes-incorporated/DMN1150UFB-7B/3986748?s=N4IgTCBcDaICIFkByBGFBWADAVQGICEBaAdnxAF0BfIA; Reel Stock: N/A
footprint X1-DFN1006-3_1X0.6MM (UFDFN-3 / 20211220 /  E.Naranjo)
pins: 1 G, 2 S, 3 D

## Q_NFET_20V_2.8A_SOT23
designator Q?, comment N CH
MOSFET N-CH 20V 2.8A SOT23 T&R 3; Manufacturer: Diodes Incorporated; Manufacturer Part Number: DMG2302UKQ-7; Supplier 1: Digi-Key; Supplier Part Number 1: 31-DMG2302UKQ-7CT-ND; Reel Stock: N/A; Last modified by: J.Jaramillo; Last modified date: 20240310; ComponentLink1Description: Digi-Key; ComponentLink1URL: https://www.digikey.com/en/products/detail/diodes-incorporated/DMG2302UKQ-7/9769911?s=N4IgTCBcDaICIFkDiYDMAGMBVA0gRQFoB2EAXQF8g
footprint SOT_23_3 (TO-236-3, SC-59/ 20190613 / J-P.Vargas.A)
pins: 1 G, 2 S, 3 D

## Q_NFET_20V_3A_SOT-23-6
designator Q?, comment SI3442BDV-T1-E3
MOSFET N-CH 20V 3A 6TSOP; Manufacturer: Vishay Siliconix; Manufacturer Part Number: SI3442BDV-T1-E3; Supplier 1: Digi-Key; Supplier Part Number 1: SI3442BDV-T1-E3CT-ND; Reel Stock: N/A; Last modified by: J.Jaramillo; Last modified date: 20240310; ComponentLink1Description: Digi-Key; ComponentLink1URL: https://www.digikey.com/en/products/detail/vishay-siliconix/si3442bdv-t1-e3/1656365
footprint SOT_23_6 (/ 20220107 / J-E.Pachon)
pins: 1 D, 2 D, 3 G, 4 S, 5 D, 6 D

## Q_NFET_20V_4.2A_SOT_23
designator Q?, comment N CH
MOSFET N-CH 20V 4.2A SOT23; Manufacturer: Diodes Incorporated; Manufacturer Part Number: KIA3414; Supplier 1: LCSC; Supplier Part Number 1: C116045; Last modified by: J.Jaramillo; Last modified date: 20240310; ComponentLink1Description: Digi-Key; ComponentLink1URL: http://www.diodes.com/_files/datasheets/ds31837.pdf; Reel Stock: N/A
footprint SOT_23_3 (TO-236-3, SC-59/ 20190613 / J-P.Vargas.A)
pins: 1 G, 2 S, 3 D

## Q_NFET_20V_4A_SOT_23
designator Q?, comment N CH
MOSFET N-CHANNEL 20V 4A SOT23F; Manufacturer: Toshiba Semiconductor and Storage; Manufacturer Part Number: SSM3K345R,LF; Supplier 1: Digi-key; Supplier Part Number 1: SSM3K345RLFCT-ND; Last modified by: J.Jaramillo; Last modified date: 20240310; ComponentLink1Description: Digi-Key; ComponentLink1URL: https://www.digikey.com/product-detail/en/toshiba-semiconductor-and-storage/SSM3K345R-LF/SSM3K345RLFCT-ND/7394092; Reel Stock: N/A
footprint SOT_23_3 (TO-236-3, SC-59/ 20190613 / J-P.Vargas.A)
footprint SOT_23_3 (TO-236-3, SC-59/ 20190613 / J-P.Vargas.A)
pins: 1 G, 2 S, 3 D

## Q_NFET_20V_5A_SOT23
designator Q?, comment N CH
MOSFET N-CH 20V 4.2A SOT23; Manufacturer: ALLPOWER; Manufacturer Part Number: AP2312; Supplier 1: LCSC; Supplier Part Number 1: C360339; Reel Stock: N/A; Last modified by: J.Jaramillo; Last modified date: 20240310; ComponentLink1Description: LCSC; ComponentLink1URL: https://lcsc.com/product-detail/MOSFET_ALLPOWER-ShenZhen-Quan-Li-Semiconductor-AP2312_C360339.html
footprint SOT_23_3 (TO-236-3, SC-59/ 20190613 / J-P.Vargas.A)
pins: 1 G, 2 S, 3 D

## Q_NFET_20V_6A_SOT_23
designator Q?, comment N CH
MOSFET N-CH 20V 6A SOT23; Manufacturer: Alpha & Omega Semiconductor Inc.; Manufacturer Part Number: AO3420; Supplier 1: Digi-key; Supplier Part Number 1: 785-1014-1-ND; Last modified by: J.Jaramillo; Last modified date: 20240310; ComponentLink1Description: Digi-Key; ComponentLink1URL: https://www.digikey.com/product-detail/en/alpha-omega-semiconductor-inc/AO3420/785-1014-1-ND/1855956; Reel Stock: N/A
footprint SOT_23_3 (TO-236-3, SC-59/ 20190613 / J-P.Vargas.A)
pins: 1 G, 2 S, 3 D

## Q_NFET_20V_8A_SOT-23-6
designator Q?, comment SQ3460EV-T1_GE3
MOSFET N-CH 20V 8A 6TSOP; Manufacturer: Vishay Siliconix; Manufacturer Part Number: SQ3460EV-T1_GE3; Supplier 1: Digi-Key; Supplier Part Number 1: SQ3460EV-T1_GE3CT-ND; Reel Stock: N/A; Last modified by: J.Jaramillo; Last modified date: 20240310; ComponentLink1Description: Digi-Key; ComponentLink1URL: https://www.digikey.com/en/products/detail/vishay-siliconix/sq3460ev-t1-ge3/2813496
footprint SOT_23_6 (/ 20220107 / J-E.Pachon)
pins: 1 D, 2 D, 3 G, 4 S, 5 D, 6 D

## Q_NFET_20V_600mA_SC_89
designator Q?, comment N CH
MOSFET N-CH 20V SC-89-3; Manufacturer: ON Semiconductor / Fairchild; Manufacturer Part Number: FDY302NZ; Supplier 1: Digi-key; Supplier Part Number 1: FDY302NZCT-ND; Last modified by: J.Jaramillo; Last modified date: 20240310; ComponentLink1Description: Digikey; ComponentLink1URL: https://www.digikey.com/products/en?keywords=FDY302NZCT-ND; Reel Stock: N/A
footprint SC_89_3 (SC-89, SOT-490 / 20190225 / C-A.Serna.A)
pins: 1 G, 2 S, 3 D

## Q_NFET_25V_13.1A_PowerVDFN-8
designator Q?, comment PXN6R2-25QLJ
PXN6R2-25QL/SOT8002/MLPAK33; Manufacturer: Nexperia USA Inc.; Manufacturer Part Number: PXN6R2-25QLJ; Supplier 1: Digi-Key; Supplier Part Number 1: 1727-PXN6R2-25QLJCT-ND; Reel Stock: N/A; Last modified by: J.Jaramillo; Last modified date: 20240310; ComponentLink1Description: Digi-Key; ComponentLink1URL: https://www.digikey.com/en/products/detail/nexperia-usa-inc/PXN6R2-25QLJ/13898697
footprint PowerVDFN-8 (20220425 / E.Naranjo)
pins: 1 S, 2 S, 3 S, 4 G, 5 D, 6 D, 7 D, 8 D

## Q_NFET_30V_5.8A_SOT23-3
designator Q?, comment AO3404A
MOSFET N-CH 30V 5.8A SOT23-3L; Manufacturer: Alpha & Omega Semiconductor Inc.; Manufacturer Part Number: AO3404A; Supplier 1: Digi-Key; Supplier Part Number 1: 785-1004-1-ND; Reel Stock: N/A; Last modified by: J.Jaramillo; Last modified date: 20240310; ComponentLink1Description: Digi-Key; ComponentLink1URL: https://www.digikey.com/en/products/detail/alpha-omega-semiconductor-inc/AO3404A/1855776
footprint SOT_23_3 (TO-236-3, SC-59/ 20190613 / J-P.Vargas.A)
pins: 1 G, 2 S, 3 D

## Q_NFET_30V_8A_SOT-23-6
designator Q?, comment SQ3410EV-T1_GE3
MOSFET N-CH 30V 8A 6TSOP; Manufacturer: Vishay Siliconix; Manufacturer Part Number: SQ3410EV-T1_GE3; Supplier 1: Digi-Key; Supplier Part Number 1: SQ3410EV-T1_GE3CT-ND; Reel Stock: N/A; Last modified by: J.Jaramillo; Last modified date: 20240310; ComponentLink1Description: Digi-Key; ComponentLink1URL: https://www.digikey.com/en/products/detail/vishay-siliconix/SQ3410EV-T1-GE3/4496411?s=N4IgTCBcDaIMoEUDMAWAjABgKIDUC0AKmgPoDiWSIAugL5A
footprint SOT_23_6 (/ 20220107 / J-E.Pachon)
pins: 1 D, 2 D, 3 G, 4 S, 5 D, 6 D

## Q_NFET_30V_9.6A_UDFNB-6
designator Q?, comment SSM6K504NU,LF
MOSFET N-CH 30V 9A 6UDFNB; Manufacturer: Toshiba Semiconductor and Storage; Manufacturer Part Number: SSM6K504NU,LF; Supplier 1: Digi-Key; Supplier Part Number 1: SSM6K504NULFCT-ND; Reel Stock: N/A; Last modified by: J.Jaramillo; Last modified date: 20240310; ComponentLink1Description: Digi-Key; ComponentLink1URL: https://www.digikey.com/en/products/detail/toshiba-semiconductor-and-storage/SSM6K504NU-LF/5810233
footprint UDFNB_6_2x2MM_EP (WDFN_6_EP/20220428/V-A.Patino)
pins: 1 D, 2 D, 3 G, 4 S, 5 D, 6 D, 7 S, 8 D

## Q_NFET_30V_32A_LFPAK
designator Q?, comment N CH
MOSFET N-CH 30V 32A LFPAK; Manufacturer: Nexperia USA Inc.; Manufacturer Part Number: PSMN013-30YLC,115; Supplier 1: Digi-key; Supplier Part Number 1: 1727-6496-1-ND; Last modified by: J.Jaramillo; Last modified date: 20240310; ComponentLink1Description: Digi-Key; ComponentLink1URL: https://www.digikey.com/product-detail/en/nexperia-usa-inc/PSMN013-30YLC115/1727-6496-1-ND/2785365; Reel Stock: N/A
footprint SOT_669 (LFPAK, SC-100/ 20190611 / J-P.Vargas.A)
pins: 1 S, 2 S, 3 S, 4 G, 5 D

## Q_NFET_30V_57A_LFPAK
designator Q?, comment N CH
MOSFET N-CH 30V 57A LFPAK56; Manufacturer: Nexperia USA Inc.; Manufacturer Part Number: PSMN9R1-30YL,115; Supplier 1: Digi-key; Supplier Part Number 1: 1727-5435-1-ND; Last modified by: J.Jaramillo; Last modified date: 20240310; ComponentLink1Description: Digi-Key; ComponentLink1URL: https://www.digikey.com/en/products/detail/nexperia-usa-inc/PSMN9R1-30YL115/2696279?s=N4IgTCBcDaIAoGUCyA5AnAJQIwFoDMADAJoAyIAugL5A; Reel Stock: N/A
footprint SOT_669 (LFPAK, SC-100/ 20190611 / J-P.Vargas.A)
pins: 1 S, 2 S, 3 S, 4 G, 5 D

## Q_NFET_50V_500mA_SOT-23
designator Q?, comment N CH
MOSFET N-CH 50V 500MA SOT23; Manufacturer: Diodes Incorporated; Manufacturer Part Number: BSN20Q-7; Supplier 1: Digi-key; Supplier Part Number 1: BSN20Q-7DICT-ND; Last modified by: J.Jaramillo; Last modified date: 20240310; ComponentLink1Description: Digikey; ComponentLink1URL: https://www.digikey.com/en/products/detail/diodes-incorporated/BSN20Q-7/6187219; Reel Stock: N/A
footprint SOT_23_3 (TO-236-3, SC-59/ 20190613 / J-P.Vargas.A)
pins: 1 G, 2 S, 3 D

## Q_NFET_60V_265mA_SOT23-3
designator Q?, comment BSN20BKR
MOSFET N-CH 60V 265MA TO236AB; Manufacturer: Nexperia USA Inc.; Manufacturer Part Number: BSN20BKR; Supplier 1: Digi-Key; Supplier Part Number 1: 1727-2341-1-ND; Reel Stock: N/A; Last modified by: J.Jaramillo; Last modified date: 20240310; ComponentLink1Description: Digi-Key; ComponentLink1URL: https://www.digikey.com/en/products/detail/nexperia-usa-inc/BSN20BKR/5423827
footprint SOT_23_3 (TO-236-3, SC-59/ 20190613 / J-P.Vargas.A)
pins: 1 G, 2 S, 3 D

## Q_NFET_60V_320mA_2CH_TSSOP_6
designator Q?, comment NMOS 2CH
MOSFET 2N-CH 60V 0.32A 6TSSOP; Manufacturer: Nexperia USA Inc.; Manufacturer Part Number: BSS138PS,115; Supplier 1: Digi-Key; Supplier Part Number 1: 1727-6479-1-ND; Reel Stock: N/A; Last modified by: J.Jaramillo; Last modified date: 20240310; ComponentLink1Description: Digi-Key; ComponentLink1URL: https://www.digikey.com/en/products/detail/nexperia-usa-inc/BSS138PS-115/2763892?s=N4IgTCBcDaIEIGUEEYDMAOACgkBdAvkA
footprint TSSOP_6 (/ 20230220/N-A.Potosi)
pins: 1 (io), 2, 3 (io), 4 (io), 5, 6 (io)

## Q_NFET_60V_320mA_SOT_23_3
designator Q?, comment N CH
MOSFET N-CH 60V 320MA SOT23-3; Manufacturer: onsemi; Manufacturer Part Number: 2N7002KT1G; Supplier 1: Digi-Key; Supplier Part Number 1: 2N7002KT1GOSCT-ND; Reel Stock: N/A; Last modified by: J.Jaramillo; Last modified date: 20240310; ComponentLink1Description: Digi-Key; ComponentLink1URL: https://www.digikey.com/en/products/detail/onsemi/2N7002KT1G/1792138
footprint SOT_23_3 (TO-236-3, SC-59/ 20190613 / J-P.Vargas.A)
pins: 1 G, 2 S, 3 D

## Q_NFET_60V_400mA_SOT-23-3
designator Q?, comment SSM3K7002KF,LF
MOSFET N-CH 60V 400MA S-MINI; Manufacturer: Toshiba Semiconductor and Storage; Manufacturer Part Number: SSM3K7002KF,LF; Supplier 1: Digi-Key; Supplier Part Number 1: SSM3K7002KFLFCT-ND; Reel Stock: N/A; Last modified by: J.Jaramillo; Last modified date: 20240310; ComponentLink1Description: Digi-Key; ComponentLink1URL: https://www.digikey.com/en/products/detail/toshiba-semiconductor-and-storage/SSM3K7002KF-LF/5977724
footprint SOT_23_3 (TO-236-3, SC-59/ 20190613 / J-P.Vargas.A)
pins: 1 G, 2 S, 3 D

## Q_NPN_25V_1.5A_SOT-23
designator Q?, comment MMSS8050-L-TP
TRANS NPN 25V 1.5A SOT23; Manufacturer: Micro Commercial Co; Manufacturer Part Number: MMSS8050-L-TP; Supplier 1: Digi-Key; Supplier Part Number 1: MMSS8050-L-TPMSCT-ND; Reel Stock: N/A; Last modified by: J.Jaramillo; Last modified date: 20240310; ComponentLink1Description: Digi-Key; ComponentLink1URL: https://www.digikey.com/en/products/detail/micro-commercial-co/MMSS8050-L-TP/2827197?s=N4IgTCBcDaILJwMqIBwAYCsaC0AZbAKgAogC6AvkA
footprint SOT_23_3 (TO-236-3, SC-59/ 20190613 / J-P.Vargas.A)
pins: 1 B, 2 E, 3 C

## Q_NPN_30V_0.6A_SOT-23-3
designator Q?, comment MMBT2222
TRANS NPN 30V 0.6A SOT23-3; Manufacturer: Fairchild Semiconductor; Manufacturer Part Number: MMBT2222; Supplier 1: Digi-Key; Supplier Part Number 1: 2156-MMBT2222-ND; Reel Stock: N/A; Last modified by: J.Jaramillo; Last modified date: 20240310; ComponentLink1Description: Digi-Key; ComponentLink1URL: https://www.digikey.com/en/products/detail/rochester-electronics-llc/MMBT2222/11515289
footprint SOT_23_3 (TO-236-3, SC-59/ 20190613 / J-P.Vargas.A)
pins: 1 B, 2 E, 3 C

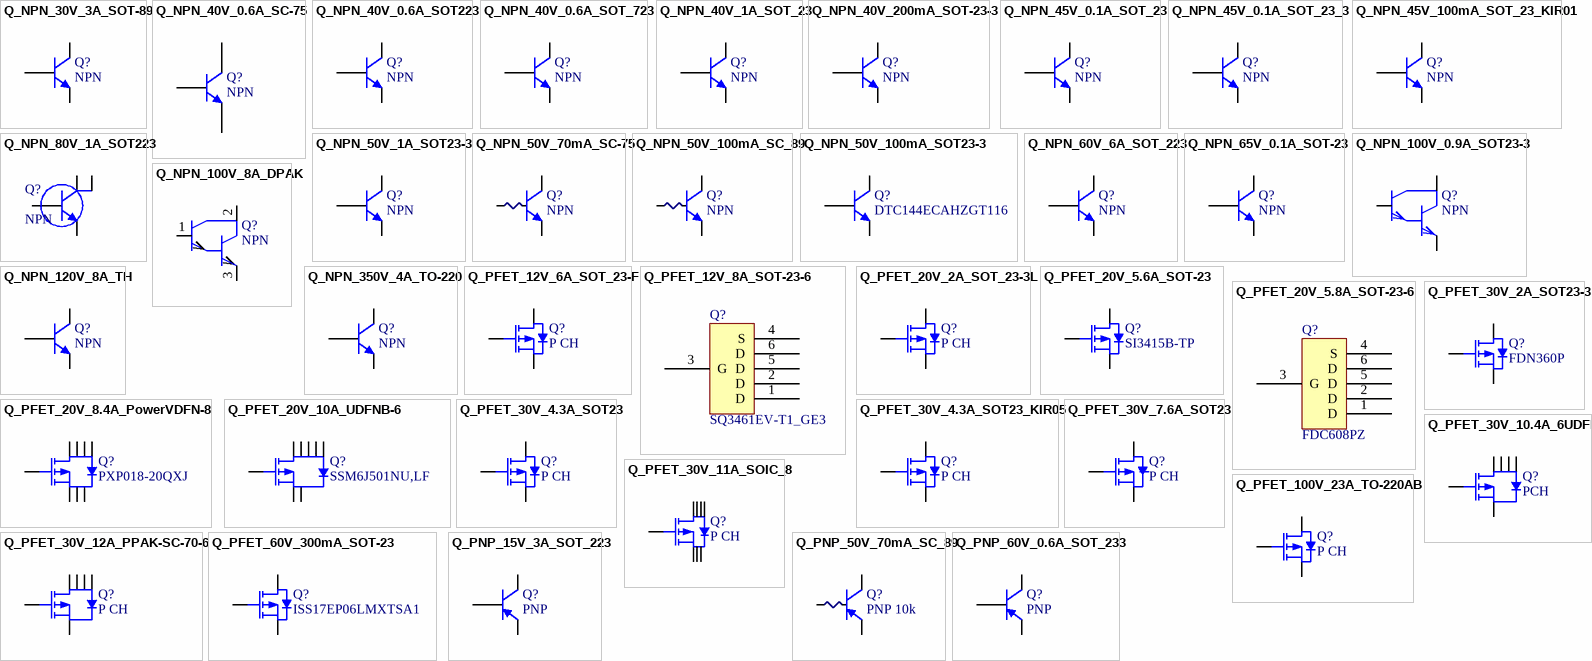
[diagram p2: symbols Q_NPN_30V_3A_SOT-89 to Q_PNP_60V_0.6A_SOT_233]

## Q_NPN_30V_3A_SOT-89
designator Q?, comment NPN
30V 500mW 3A NPN SOT-89-3 Bipolar Transistors - BJT ROHS; Manufacturer: CHANGJIANG ELECTRONICS TECH; Manufacturer Part Number: C9634; Supplier 1: LCSC; Supplier Part Number 1: C9634; Reel Stock: N/A; Last modified by: J.Jaramillo; Last modified date: 20240310; ComponentLink1Description: Digikey; ComponentLink1URL: https://lcsc.com/product-detail/Bipolar-Transistors-BJT_Changjiang-Electronics-Tech-CJ-C9634_C9634.html
footprint SOT_89 (/20210416/V-A.Patino)
pins: 1 B, 2 C, 3 E

## Q_NPN_40V_0.6A_SC-75
designator Q?, comment NPN
SMALL SIGNAL BIPOLAR TRANSISTOR,; Manufacturer: ON Semiconductor; Manufacturer Part Number: MMBT2222ATT1G; Supplier 1: Digi-Key; Supplier Part Number 1: 2156-MMBT2222ATT1G-OS-ND; Reel Stock: N/A; Last modified by: J.Jaramillo; Last modified date: 20240310; ComponentLink1Description: Digi-Key; ComponentLink1URL: https://www.digikey.com/en/products/detail/on-semiconductor/MMBT2222ATT1G/13478416
footprint SC_75 (/20210419/V-A.Patino)
pins: 1 B, 2 E, 3 C

## Q_NPN_40V_0.6A_SOT223
designator Q?, comment NPN
TRANS NPN 40V 600MA SOT223; Manufacturer: On Semiconductor; Manufacturer Part Number: PZT2222AT1G; Supplier 1: Digikey; Supplier Part Number 1: PZT2222AT1GOSCT-ND; Reel Stock: N/A; Last modified by: J.Jaramillo; Last modified date: 20240310; ComponentLink1Description: Digikey; ComponentLink1URL: https://www.digikey.com/en/products/detail/on-semiconductor/PZT2222AT1G/920285
footprint TO_261_4 (TO-261AA, SOT-223 / 20190225 / C-A.Serna.A)
pins: 1 B, 2 E, 3 C

## Q_NPN_40V_0.6A_SOT_723
designator Q?, comment NPN
TRANS NPN 40V 0.6A SOT-723; Manufacturer: ON Semiconductor; Manufacturer Part Number: MMBT2222AM3T5G; Reel Stock: N/A; Last modified by: J.Jaramillo; Last modified date: 20240310; ComponentLink1Description: Digikey; ComponentLink1URL: https://www.digikey.tw/product-detail/en/on-semiconductor/MMBT2222AM3T5G/MMBT2222AM3T5GOSCT-ND/3487571; Supplier 1: Digi-Key; Supplier Part Number 1: MMBT2222AM3T5GOSCT-ND
footprint SOT_723 (/ 20190225 / C-A.Serna.A)
pins: 1 B, 2 E, 3 C

## Q_NPN_40V_1A_SOT_23
designator Q?, comment NPN
TRANS NPN 40V 1A SOT-23; Manufacturer: NTE Electronics, Inc; Manufacturer Part Number: MMBT2222A; Supplier 1: Digi-key; Supplier Part Number 1: 2368-MMBT2222A-ND; Reel Stock: N/A; Last modified by: J.Jaramillo; Last modified date: 20240310; ComponentLink1Description: Digi-key; ComponentLink1URL: https://www.digikey.com/en/products/detail/nte-electronics-inc/MMBT2222A/11649324?s=N4IgjCBcpgbFoDGUBmBDANgZwKYBoQB7KAbRABYwBmKsADhAF0CAHAFyhAGU2AnASwB2AcxABfAgHZyCEMkjps%2BIqRBU6ABgCssAJxNWHSNz5DREkHUqz5i3AWKQyYAExgNLmcxDtOPASLiBG4aENByqJj2Kk7gAAQAgiAEYAB0LlqJyeCpmUnevsYAqoL8bADyKACyOGhYAK68OEEgALQuNlB89cqOZFpMYkNAA
footprint SOT_23_3 (TO-236-3, SC-59/ 20190613 / J-P.Vargas.A)
pins: 1 B, 2 E, 3 C

## Q_NPN_40V_200mA_SOT-23-3
designator Q?, comment NPN
TRANS NPN 40V 0.2A SOT23-3; Manufacturer: ON Semiconductor; Manufacturer Part Number: MMBT3904LT1G; Supplier 1: Digi-Key; Supplier Part Number 1: MMBT3904LT1GOSCT-ND; Reel Stock: N/A; Last modified by: J.Jaramillo; Last modified date: 20240310; ComponentLink1Description: Digikey; ComponentLink1URL: https://www.digikey.com/en/products/detail/on-semiconductor/MMBT3904LT1G/919601
footprint SOT_23_3 (TO-236-3, SC-59/ 20190613 / J-P.Vargas.A)
pins: 1 B, 2 E, 3 C

## Q_NPN_45V_0.1A_SOT_23
designator Q?, comment NPN
TRANS NPN 45V 0.1A SOT23; Manufacturer: ON Semiconductor; Manufacturer Part Number: BC847BLT1G; Reel Stock: N/A; Last modified by: J.Jaramillo; Last modified date: 20240310; ComponentLink1Description: Digi-Key; ComponentLink1URL: https://www.digikey.com/product-detail/en/on-semiconductor/BC847BLT1G/BC847BLT1GOSCT-ND/917834; Supplier 1: Digi-Key; Supplier Part Number 1: BC847BLT1GOSCT-ND
footprint SOT_23_3 (TO-236-3, SC-59/ 20190613 / J-P.Vargas.A)
pins: 1 B, 2 E, 3 C

## Q_NPN_45V_0.1A_SOT_23_3
designator Q?, comment NPN
TRANS NPN 45V 0.1A SOT23; Manufacturer: Changjiang Electronics Tech (CJ); Manufacturer Part Number: BC847 1E; Reel Stock: N/A; Last modified by: J.Jaramillo; Last modified date: 20240310; ComponentLink1Description: LCSC; ComponentLink1URL: https://lcsc.com/product-detail/Transistors-NPN-PNP_Changjiang-Electronics-Tech-CJ-BC847_C8574.html; Supplier 1: LCSC; Supplier Part Number 1: C8574
footprint SOT_23_3 (TO-236-3, SC-59/ 20190613 / J-P.Vargas.A)
pins: 1 B, 2 E, 3 C

## Q_NPN_45V_100mA_SOT_23_KIR01
designator Q?, comment NPN
TRANS NPN 45V 0.1A SOT23; Manufacturer: Nexperia USA Inc.; Manufacturer Part Number: BC847A,215; Supplier 1: Digi-Key; Supplier Part Number 1: 1727-4240-1-ND; Reel Stock: N/A; Last modified by: J.Jaramillo; Last modified date: 20240310; ComponentLink1Description: Digi-Key; ComponentLink1URL: https://www.digikey.com/products/en?keywords=1727-4240-1-ND
footprint SOT_23_3 (TO-236-3, SC-59/ 20190613 / J-P.Vargas.A)
pins: 1 B, 2 E, 3 C

## Q_NPN_50V_1A_SOT23-3
designator Q?, comment NPN
TRANS NPN 50V 1A 3CPH; Manufacturer: ON Semiconductor; Manufacturer Part Number: CPH3216-TL-E; Supplier 1: Digikey; Supplier Part Number 1: CPH3216-TL-EOSCT-ND; Reel Stock: N/A; Last modified by: J.Jaramillo; Last modified date: 20240310; ComponentLink1Description: Digikey; ComponentLink1URL: https://www.digikey.com/en/products/detail/on-semiconductor/CPH3216-TL-E/2797132
footprint SOT_23_3 (TO-236-3, SC-59/ 20190613 / J-P.Vargas.A)
pins: 1 B, 2 E, 3 C

## Q_NPN_50V_70mA_SC-75
designator Q?, comment NPN
TRANS PREBIAS NPN 50V EMT3F; Manufacturer: Rohm Semiconductor; Manufacturer Part Number: DTC114YETL; Reel Stock: N/A; Supplier 1: Digi-key; Supplier Part Number 1: DTC114YETLCT-ND; Last modified by: J.Jaramillo; Last modified date: 20240310; ComponentLink1Description: Digikey; ComponentLink1URL: https://www.digikey.com/en/products/detail/rohm-semiconductor/DTC114YETL/658884?s=N4IgTCBcDaICIBUDCBGFAWAmgUQQGRAF0BfIA
footprint SC_89_3 (SC-89, SOT-490 / 20190225 / C-A.Serna.A)
pins: 1 B, 2 E, 3 C

## Q_NPN_50V_100mA_SC_89
designator Q?, comment NPN
TRANS PREBIAS NPN 50V EMT3F; Manufacturer: Rohm Semiconductor; Manufacturer Part Number: DTC043ZEBTL; Reel Stock: N/A; Supplier 1: Digi-key; Supplier Part Number 1: DTC043ZEBTLTR-ND; Last modified by: J.Jaramillo; Last modified date: 20240310; ComponentLink1Description: Digikey; ComponentLink1URL: https://www.digikey.com/product-detail/en/rohm-semiconductor/DTC043ZEBTL/DTC043ZEBTLTR-ND/5019130
footprint SC_89_3 (SC-89, SOT-490 / 20190225 / C-A.Serna.A)
pins: 1 B, 2 E, 3 C